# Altium footprint library ESDA5V3SC6.PcbLib: 1 footprints
Each footprint in its own frame and in the unit in brackets; x right, y up, seen from the top. Pads: shape width x height; smd on the part's side, far side on the other; paste and mask are expansions set on the pad; w line width, h text height; cw(c..) or ccw(c..) is an arc to the next point about the centre after c.
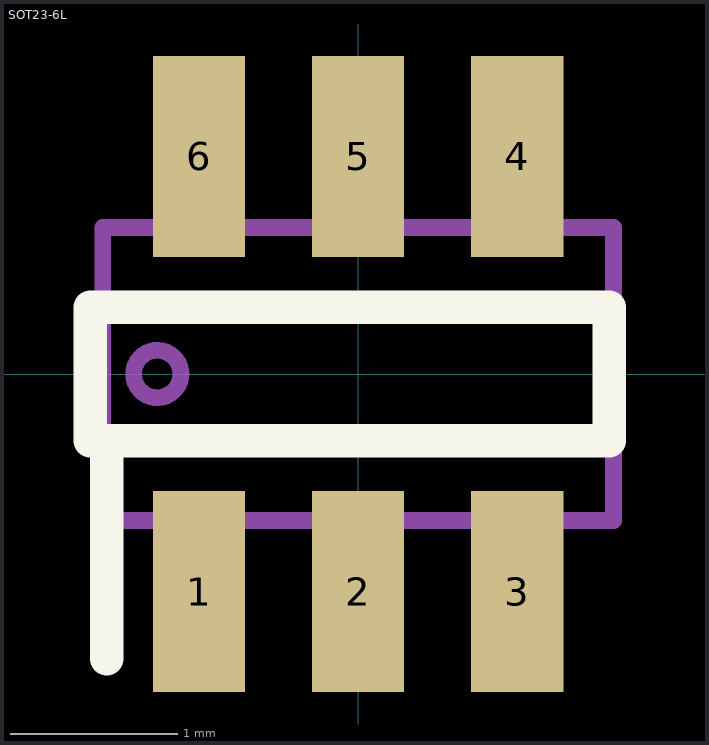
[diagram p0: the footprint, top view; thin cyan lines are the x and y axes]

## SOT23-6L [mm]
pads (6):
  rect 0.55x1.2 smd: 1(-0.95,-1.3) 2(0,-1.3) 3(0.95,-1.3) 4(0.95,1.3) 5(0,1.3) 6(-0.95,1.3)
Top Overlay:
  lines w0.2: -1.5,-1.7 -1.5,-0.4 ; -1.5,-0.4 -1.6,-0.4 -1.6,0.4 1.5,0.4 1.5,-0.4 -1.5,-0.4
Mechanical 13:
  circle w0.1: c-1.2,0 r0.141
  region: 0.25,0.85 -0.25,0.85 -0.25,1.5 0.25,1.5
  region: -0.7,0.85 -1.2,0.85 -1.2,1.5 -0.7,1.5
  region: 1.2,0.85 0.7,0.85 0.7,1.5 1.2,1.5
  region: 1.2,-1.5 0.7,-1.5 0.7,-0.85 1.2,-0.85
  region: 0.25,-1.5 -0.25,-1.5 -0.25,-0.85 0.25,-0.85
  region: -0.7,-1.5 -1.2,-1.5 -1.2,-0.85 -0.7,-0.85
  lines w0.1: -1.525,-0.875 -1.525,0.875 1.525,0.875 1.525,-0.875 -1.525,-0.875
3D body "ESDA5V3SC6.STEP": height 1.4, standoff -0.05, extent -1.462,-1.4 1.462,1.4